# Altium footprint library F3081B7F121006E200.PcbLib: 1 footprints
Each footprint in its own frame and in the unit in brackets; x right, y up, seen from the top. Pads: shape width x height; smd on the part's side, far side on the other; paste and mask are expansions set on the pad; w line width, h text height; cw(c..) or ccw(c..) is an arc to the next point about the centre after c.
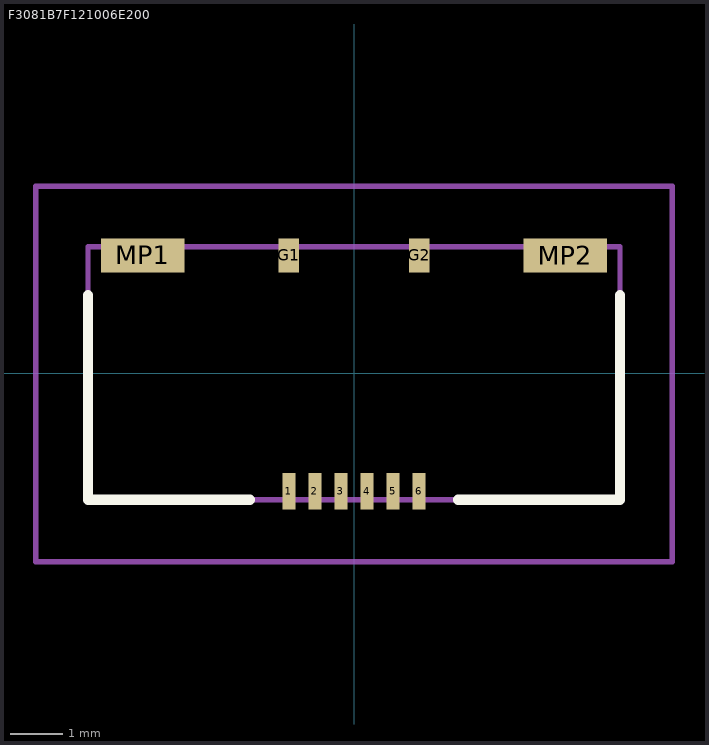
[diagram p0: the footprint, top view; thin cyan lines are the x and y axes]

## F3081B7F121006E200 [mm]
pads (10):
  rect 0.25x0.7 smd: 1(-1.25,-2.263) 2(-0.75,-2.263) 3(-0.25,-2.263) 4(0.25,-2.263) 5(0.75,-2.263) 6(1.25,-2.263)
  rect 0.4x0.65 smd: G1(-1.25,2.262) G2(1.25,2.262)
  rect 1.6x0.65 smd: MP1(-4.05,2.262) MP2(4.05,2.262)
Top Overlay:
  lines w0.2: -5.1,1.5 -5.1,-2.425 -2,-2.425 ; 2,-2.425 5.1,-2.425 5.1,1.5
Mechanical 15:
  lines w0.1: -5.1,-2.425 5.1,-2.425 5.1,2.425 -5.1,2.425 -5.1,-2.425
Mechanical 20:
  lines w0.1: -6.1,-3.612 6.1,-3.612 6.1,3.587 -6.1,3.587 -6.1,-3.612